# EAGLE library part PIC24FJXXXGA204-44PIN (library ANIMAlib)
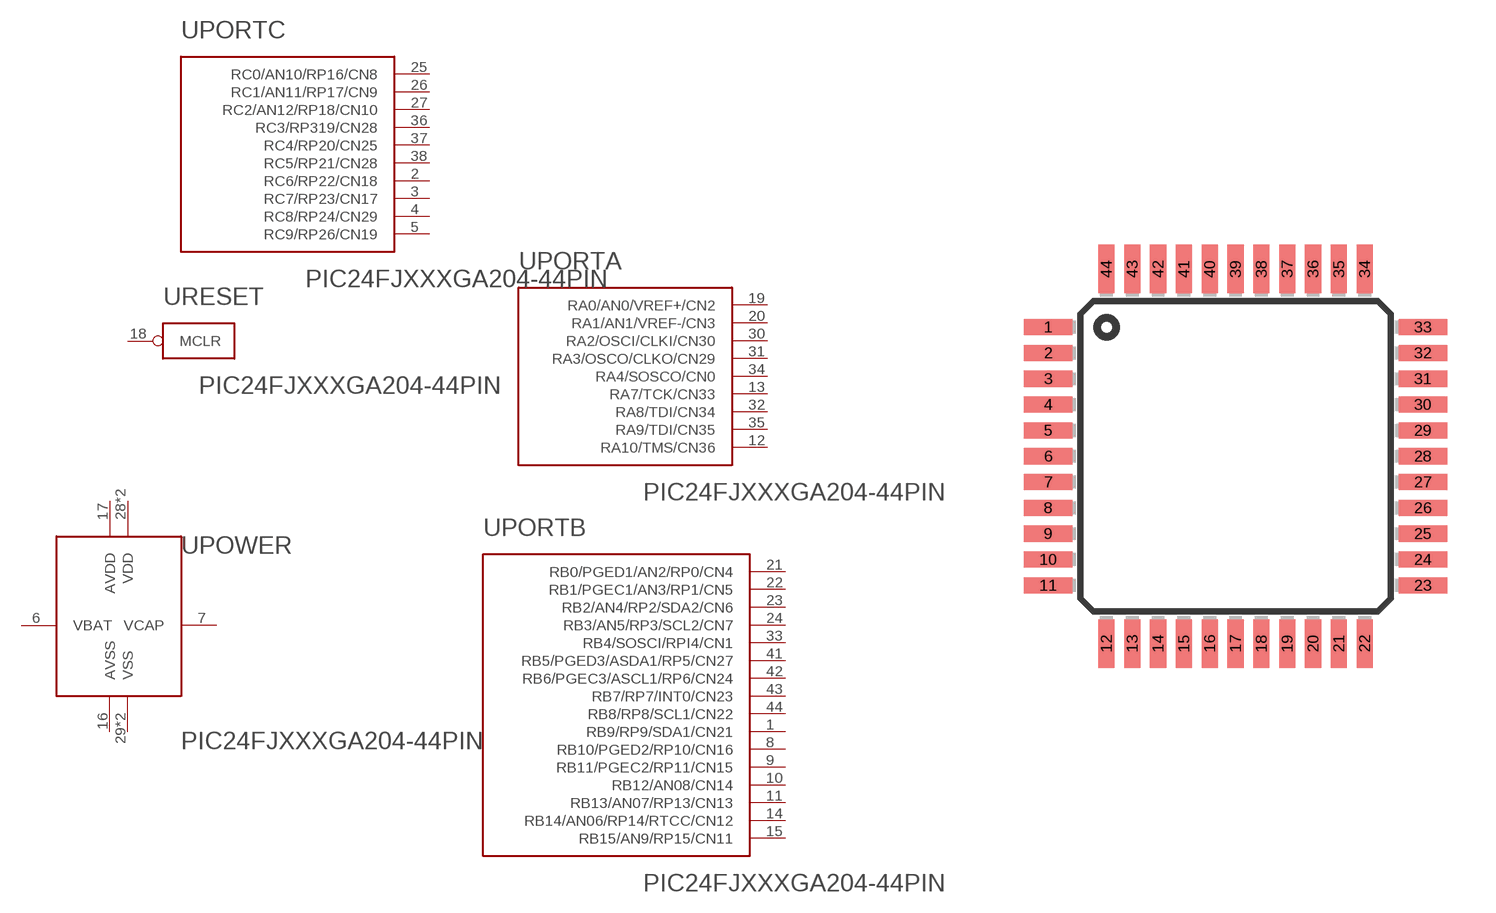
[diagram p32: symbol with the pads of TQFP44; footprint TQFP44]

Designator prefix U; gates RESET=PIC24FJXXXGA204-RESET PORTA=PIC24FJXXXGA204-44PIN-PORTA PORTB=PIC24FJXXXGA204-44PIN-PORTB PORTC=PIC24FJXXXGA204-44PIN-PORTC POWER=PIC24FJXXXGA204-44PIN-POWER

## PIC24FJXXXGA204-44PIN  [TQFP44]
1  PORTB:RB9/RP9/SDA1/CN21
2  PORTC:RC6/RP22/CN18
3  PORTC:RC7/RP23/CN17
4  PORTC:RC8/RP24/CN29
5  PORTC:RC9/RP26/CN19
6  POWER:VBAT
7  POWER:VCAP
8  PORTB:RB10/PGED2/RP10/CN16
9  PORTB:RB11/PGEC2/RP11/CN15
10  PORTB:RB12/AN08/CN14
11  PORTB:RB13/AN07/RP13/CN13
12  PORTA:RA10/TMS/CN36
13  PORTA:RA7/TCK/CN33
14  PORTB:RB14/AN06/RP14/RTCC/CN12
15  PORTB:RB15/AN9/RP15/CN11
16  POWER:AVSS
17  POWER:AVDD
18  RESET:MCLR
19  PORTA:RA0/AN0/VREF+/CN2
20  PORTA:RA1/AN1/VREF-/CN3
21  PORTB:RB0/PGED1/AN2/RP0/CN4
22  PORTB:RB1/PGEC1/AN3/RP1/CN5
23  PORTB:RB2/AN4/RP2/SDA2/CN6
24  PORTB:RB3/AN5/RP3/SCL2/CN7
25  PORTC:RC0/AN10/RP16/CN8
26  PORTC:RC1/AN11/RP17/CN9
27  PORTC:RC2/AN12/RP18/CN10
28  POWER:VDD
29  POWER:VSS
30  PORTA:RA2/OSCI/CLKI/CN30
31  PORTA:RA3/OSCO/CLKO/CN29
32  PORTA:RA8/TDI/CN34
33  PORTB:RB4/SOSCI/RPI4/CN1
34  PORTA:RA4/SOSCO/CN0
35  PORTA:RA9/TDI/CN35
36  PORTC:RC3/RP319/CN28
37  PORTC:RC4/RP20/CN25
38  PORTC:RC5/RP21/CN28
39  POWER:VSS
40  POWER:VDD
41  PORTB:RB5/PGED3/ASDA1/RP5/CN27
42  PORTB:RB6/PGEC3/ASCL1/RP6/CN24
43  PORTB:RB7/RP7/INT0/CN23
44  PORTB:RB8/RP8/SCL1/CN22

## Footprint TQFP44 (pad centres in mm)
smd 1.5 x 0.5: 1 -5.8,4; 2 -5.8,3.2; 3 -5.8,2.4; 4 -5.8,1.6; 5 -5.8,0.8; 6 -5.8,0; 7 -5.8,-0.8; 8 -5.8,-1.6; 9 -5.8,-2.4; 10 -5.8,-3.2; 11 -5.8,-4; 23 5.8,-4; 24 5.8,-3.2; 25 5.8,-2.4; 26 5.8,-1.6; 27 5.8,-0.8; 28 5.8,0; 29 5.8,0.8; 30 5.8,1.6; 31 5.8,2.4; 32 5.8,3.2; 33 5.8,4
smd 0.5 x 1.5: 12 -4,-5.8; 13 -3.2,-5.8; 14 -2.4,-5.8; 15 -1.6,-5.8; 16 -0.8,-5.8; 17 0,-5.8; 18 0.8,-5.8; 19 1.6,-5.8; 20 2.4,-5.8; 21 3.2,-5.8; 22 4,-5.8; 34 4,5.8; 35 3.2,5.8; 36 2.4,5.8; 37 1.6,5.8; 38 0.8,5.8; 39 0,5.8; 40 -0.8,5.8; 41 -1.6,5.8; 42 -2.4,5.8; 43 -3.2,5.8; 44 -4,5.8